# Altium schematic symbol library Diodes.SchLib: 2 symbols
Pins are listed as number, name and electrical type; pins without a type are passive.

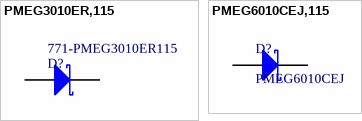
[diagram p0: symbols PMEG3010ER,115 to PMEG6010CEJ,115]

## PMEG3010ER,115
designator D?  Supplier Part Number 1: 771-PMEG3010ER115  (hidden comment: *)
Schottky Diodes & Rectifiers SCHOTTKY DIODE; Manufacturer: NXP Semiconductors; Manufacturer Part Number: PMEG3010ER,115; Configuration: Single; If - Forward Current: 1 A; Ifsm - Forward Surge Current: 50 A; Ir - Reverse Current: 1500 uA; Pd - Power Dissipation: 570 mW; Vf - Forward Voltage: 320 mV; Vrrm - Repetitive Reverse Voltage: 30 V; Supplier 1: Mouser; RoHS: RoHS Compliant; Category: Schottky Diodes & Rectifiers; Stock 1: 26531; Pricing 1: 1=0.380, 10=0.288, 100=0.161, 1000=0.117, 3000=0.100, 9000=0.094, 24000=0.086, 45000=0.083 (EUR); Length: 2.8 mm; Package / Case: SOD-123; Packaging: Reel; Product: Schottky Rectifiers; Technology: Si; Termination Style: SMD/SMT; Type: Schottky Diode; Width: 1.9 mm; Brand: NXP Semiconductors; Mounting Style: SMD/SMT; Maximum Operating Temperature: + 150 C; Minimum Operating Temperature: - 55 C; Standard Pack Qty: 3000; RoHS - Mouser: Y; Minimum Order Quantity: 1; Reeling: True; ComponentLink1URL: http://www.mouser.com/ds/2/302/PMEG3010ER-842338.pdf; ComponentLink1Description: http://www.mouser.com/ds/2/302/PMEG3010ER-842338.pdf
footprint SOD123W_L (SODFL, 2-Leads, Body 1.70x3.50mm, IPC Low Density)
footprint SOD123W_M (SODFL, 2-Leads, Body 1.70x3.50mm, IPC Medium Density)
footprint SOD123W_H (SODFL, 2-Leads, Body 1.70x3.50mm, IPC High Density)
pins: 1 K, 2 A

## PMEG6010CEJ,115
designator D?, comment PMEG6010CEJ
DIODE SCHOTTKY 60V 1A SOD323F; Manufacturer: NXP USA Inc.; Manufacturer Part Number: PMEG6010CEJ,115; Current - Average Rectified (Io): 1A (DC); Voltage - Forward (Vf) (Max) @ If: 660mV @ 1A; Speed: Fast Recovery =< 500ns, > 200mA (Io); Current - Reverse Leakage @ Vr: 50µA @ 60V; Capacitance @ Vr, F: 68pF @ 1V, 1MHz; Supplier 1: Digi-Key; Supplier Part Number 1: 568-4138-1-ND; RoHS: RoHS Compliant; Category: Discrete Semiconductor Products; Stock 1: 17553; Pricing 1: 1=0.38, 10=0.308, 100=0.2102, 500=0.15734, 1000=0.11785 (USD); Packaging: Cut Tape (CT); Part Status: Active; Diode Type: Schottky; Voltage - DC Reverse (Vr) (Max): 60V; Reverse Recovery Time (trr): -; Mounting Type: Surface Mount; Package / Case: SC-90, SOD-323F; Supplier Device Package: SOD-323F; Operating Temperature - Junction: 150°C (Max); ComponentLink1URL: http://www.nxp.com/documents/data_sheet/PMEG6010CEH_PMEG6010CEJ.pdf; ComponentLink1Description: http://www.nxp.com/documents/data_sheet/PMEG6010CEH_PMEG6010CEJ.pdf
footprint SOD323M (SODFL, 2-Leads, Body 1,25x2,50mm, IPC Low Density)
footprint SOD323N (SODFL, 2-Leads, Body 1,25x2,50mm, IPC Medium Density)
footprint SOD323L (SODFL, 2-Leads, Body 1,25x2,50mm, IPC High Density)
pins: 1 K, 2 A